# Altium schematic symbol library Seiko Epson Oscillator.SchLib: 1 symbol
Pins are listed as number, name and electrical type; pins without a type are passive.

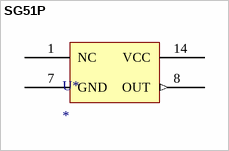
[diagram p0: symbol SG51P]

## SG51P
designator U*
4.000000  MHz High Frequency Oscillator
footprint DIP14 (DIP; 14 Leads; Row Spacing 7.62 mm; Pitch 2.54 mm)
pins: 1 NC, 7 GND (power), 8 OUT (out), 14 VCC (power)